# EAGLE library part CDP68HC68T1EZ (library Intersil_By_element14_Batch_1)
CMOS Serial Real-Time Clock
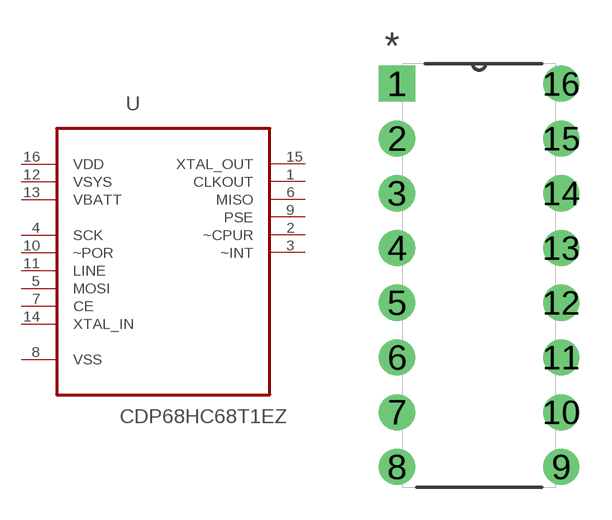
[diagram p20: symbol with the pads of DIP254P762X533-16; footprint DIP254P762X533-16]

Designator prefix U

## CDP68HC68T1EZ (MPN: CDP68HC68T1EZ; OC_FARNELL: 1018167; OC_NEWARK: 57K3029; PACKAGE: PDIP-16; SUPPLIER: INTERSIL)  [DIP254P762X533-16]
1  CLKOUT  out
2  ~CPUR  out
3  ~INT  out
4  SCK  in
5  MOSI  in
6  MISO  out
7  CE  in
8  VSS  pwr
9  PSE  out
10  ~POR  in
11  LINE  in
12  VSYS  in
13  VBATT  pas
14  XTAL_IN  in
15  XTAL_OUT  out
16  VDD  pwr

## Footprint DIP254P762X533-16 (pad centres in mm)
drill 1.118 square: 1 -7.62,17.78
drill 1.118: 2 -7.62,15.24; 3 -7.62,12.7; 4 -7.62,10.16; 5 -7.62,7.62; 6 -7.62,5.08; 7 -7.62,2.54; 8 -7.62,0; 9 0,0; 10 0,2.54; 11 0,5.08; 12 0,7.62; 13 0,10.16; 14 0,12.7; 15 0,15.24; 16 0,17.78